# Altium schematic symbol library SCH - PASSIVES - CAPACITOR.SCHLIB: 1 symbol
Pins are listed as number, name and electrical type; pins without a type are passive.

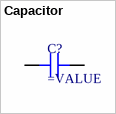
[diagram p0: symbol Capacitor]

## Capacitor
designator C?
SMT Capacitor
footprint CAP 0603/1608 (Chip Capacitor, 2-Leads, Body 1.60x0.80mm, IPC Medium Density)
footprint CAP 0805/2012 (Chip Capacitor, 2-Leads, Body 2.00x1.20mm, IPC Medium Density)
footprint CAP 1206/3216 - 1.8MM (Chip Capacitor, 2-Leads, Body 3.25x1.60mm, IPC Medium Density)
footprint CAP 1210/3225 - 2.5MM (Chip Capacitor, 2-Leads, Body 3.20x2.50mm, IPC Medium Density)
footprint CAP 1210/3225 - 2.8MM (Chip Capacitor, 2-Leads, Body 3.20x2.50mm, IPC Medium Density)
footprint TDK CKG57N (Chip Capacitor, 2-Leads, Body 6.00x5.00mm, IPC Medium Density)
footprint CAP 0402/1005 (Chip Capacitor, 2-Leads, Body 1.02x0.51mm, IPC Medium Density)
pins: 1, 2